# Altium schematic symbol library MergenElektronik_Connectors_USB.SchLib: 1 symbol
Pins are listed as number, name and electrical type; pins without a type are passive.

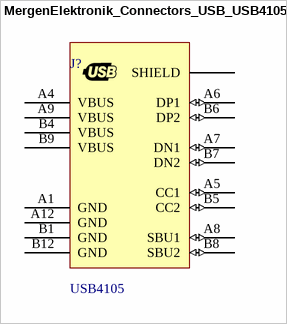
[diagram p0: symbol MergenElektronik_Connectors_USB_USB4105]

## MergenElektronik_Connectors_USB_USB4105
designator J?, comment USB4105
Mergen Elektronik - Connectors - USB Connectors - USB4105; Manufacturer: GCT; Manufacturer Number: USB4105-GF-A; Model: Type - C / USB 2.0; Voltage Rating: 20VDC; Current Rating: 0.25A, 1.25A, 5A, 6.25A; Value: USB4105; Mounting Type: THT - SMD R/A; Temperature: -40°C up to 85°C; Digi-Key Number: 2073-USB4105-GF-ACT-ND; Mouser Number: 640-USB4105-GF-A; Farnell Number: 3588205; Özdisan Number: USB4105-GF-A; Supplier 1: Digi-Key; Supplier Part Number 1: 2073-USB4105-GF-ADKR-ND; Supplier 2: Mouser; Supplier Part Number 2: 640-USB4105-GF-A; Package: USB4105
footprint MergenElektronik_Connectors_USB_USB4105 (USB4105)
pins: A1 GND (power), A4 VBUS (power), A5 CC1 (io), A6 DP1 (io), A7 DN1 (io), A8 SBU1 (io), A9 VBUS, A12 GND (power), B1 GND (power), B4 VBUS (power), B5 CC2 (io), B6 DP2 (io), B7 DN2 (io), B8 SBU2 (io), B9 VBUS (power), B12 GND (power), SHIELD (power)